# Altium footprint library MV-LED.PcbLib: 10 footprints
Each footprint in its own frame and in the unit in brackets; x right, y up, seen from the top. Pads: shape width x height; smd on the part's side, far side on the other; paste and mask are expansions set on the pad; w line width, h text height; cw(c..) or ccw(c..) is an arc to the next point about the centre after c.
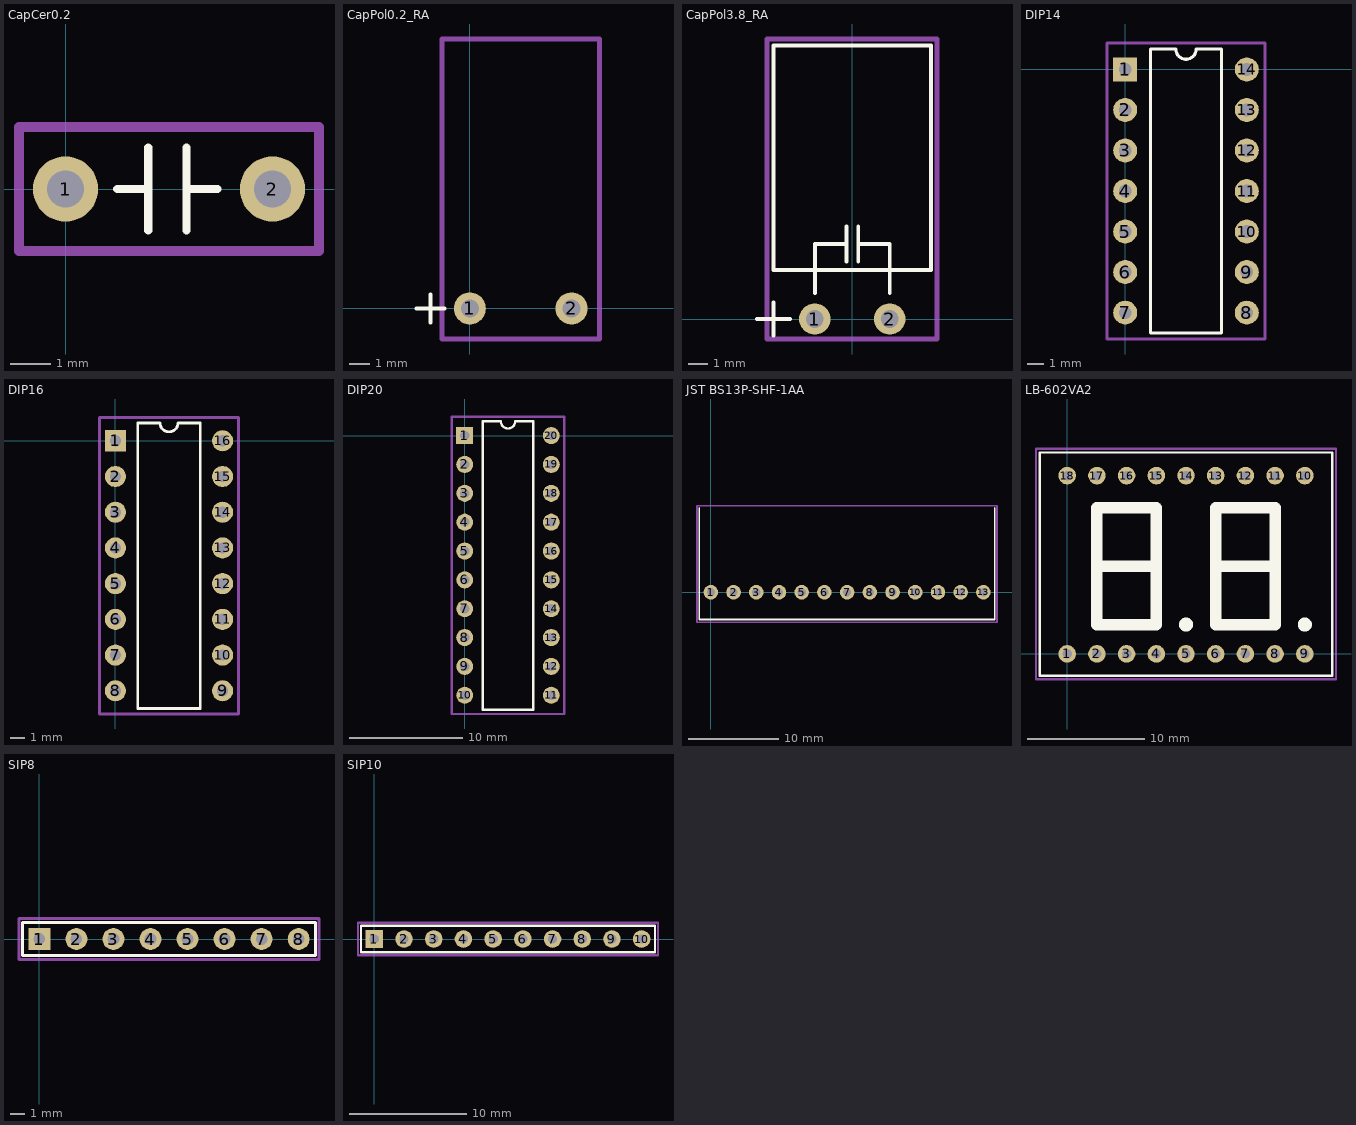
[diagram p0: the footprints below, top view; thin cyan lines are the x and y axes]

## CapCer0.2 [mm]
pads (2):
  round 1.6 hole 0.9: 1(0,0) 2(5.08,0)
Top Overlay:
  lines w0.2: 1.27,0 2.032,0 ; 2.032,-1.016 2.032,1.016 ; 2.968,-1.016 2.968,1.016 ; 2.968,0 3.73,0
Mechanical 15:
  lines w0.254: -1.143,-1.524 -1.143,1.524 6.223,1.524 6.223,-1.524 -1.143,-1.524
3D body "c322c104m5u5ta.stp": height 7.81, standoff -5.79, extent -0.255,-1.585 5.335,1.6

## CapPol0.2_RA [mm]
pads (2):
  round 1.6 hole 0.9: 1(0,0) 2(5.08,0)
Top Overlay:
  lines w0.2: -2.667,0 -1.27,0 ; -1.968,-0.699 -1.968,0.699
Mechanical 15:
  lines w0.254: -1.397,-1.524 -1.397,13.462 6.477,13.462 6.477,-1.524 -1.397,-1.524
3D body: height 8.5, standoff 0.5, extent -1.46,1.524 6.54,13.524

## CapPol3.8_RA [mm]
pads (2):
  round 1.6 hole 0.9: 1(-1.9,0) 2(1.9,0)
Top Overlay:
  lines w0.2: -4.85,0 -3.15,0 ; -4,-0.85 -4,0.85 ; -1.895,1.31 -1.895,3.81 -0.295,3.81 ; -0.295,2.91 -0.295,4.71 ; 0.305,2.91 0.305,4.71 ; 0.305,3.81 1.905,3.81 1.905,1.31 ; -4,2.5 4,2.5 4,13.9 -4,13.9 -4,2.5
Mechanical 15:
  lines w0.254: -4.318,-1.016 4.318,-1.016 4.318,14.224 -4.318,14.224 -4.318,-1.016
3D body: height 8, standoff 0, extent -4.071,1.604 3.929,13.604

## DIP14 [mm]
pads (14):
  rect 1.5x1.5 hole 0.8: 1(0,0)
  round 1.5 hole 0.8: 2(0,-2.54) 3(0,-5.08) 4(0,-7.62) 5(0,-10.16) 6(0,-12.7) 7(0,-15.24) 8(7.62,-15.24) 9(7.62,-12.7) 10(7.62,-10.16) 11(7.62,-7.62) 12(7.62,-5.08) 13(7.62,-2.54) 14(7.62,0)
Top Overlay:
  lines w0.2: 1.585,-16.51 6.035,-16.51 6.035,1.27 4.445,1.27 cw(c3.81,1.27) 3.175,1.27 1.585,1.27 1.585,-16.51
Mechanical 15:
  lines w0.2: -1.143,-16.891 8.763,-16.891 8.763,1.651 -1.143,1.651 -1.143,-16.891
3D body "CircuitWorks-DIP14.step": height 4.19, standoff -2.67, extent -0.127,-17.145 7.747,1.905

## DIP16 [mm]
pads (16):
  rect 1.5x1.5 hole 0.8: 1(0,0)
  round 1.5 hole 0.8: 2(0,-2.54) 3(0,-5.08) 4(0,-7.62) 5(0,-10.16) 6(0,-12.7) 7(0,-15.24) 8(0,-17.78) 9(7.62,-17.78) 10(7.62,-15.24) 11(7.62,-12.7) 12(7.62,-10.16) 13(7.62,-7.62) 14(7.62,-5.08) 15(7.62,-2.54) 16(7.62,0)
Top Overlay:
  lines w0.2: 1.585,-19.05 6.035,-19.05 6.035,1.27 4.445,1.27 cw(c3.81,1.27) 3.175,1.27 1.585,1.27 1.585,-19.05
Mechanical 15:
  lines w0.2: -1.143,-19.431 -1.143,1.651 8.763,1.651 8.763,-19.431 -1.143,-19.431
3D body "CircuitWorks-DIP16.step": height 4.19, standoff -2.57, extent -0.127,-19.583 7.747,2.007

## DIP20 [mm]
pads (20):
  rect 1.5x1.5 hole 0.8: 1(0,0)
  round 1.5 hole 0.8: 2(0,-2.54) 3(0,-5.08) 4(0,-7.62) 5(0,-10.16) 6(0,-12.7) 7(0,-15.24) 8(0,-17.78) 9(0,-20.32) 10(0,-22.86) 11(7.62,-22.86) 12(7.62,-20.32) 13(7.62,-17.78) 14(7.62,-15.24) 15(7.62,-12.7) 16(7.62,-10.16) 17(7.62,-7.62) 18(7.62,-5.08) 19(7.62,-2.54) 20(7.62,0)
Top Overlay:
  lines w0.2: 1.585,-24.13 6.035,-24.13 6.035,1.27 4.445,1.27 cw(c3.81,1.27) 3.175,1.27 1.585,1.27 1.585,-24.13
Mechanical 15:
  lines w0.2: -1.143,-24.511 8.763,-24.511 8.763,1.651 -1.143,1.651 -1.143,-24.511
3D body "User Library-DIP-20P-M01.step": height 4.36, standoff -3, extent -0.125,-23.711 7.745,0.889

## JST BS13P-SHF-1AA [mm] "JST HVQ Series, 2.5mm Pitch 13 Way 1 Row Right Angle PCB Header, Through Hole, Solder Termination"
pads (13):
  round 1.6 hole 0.9: 1(0,0) 2(2.5,0) 3(5,0) 4(7.5,0) 5(10,0) 6(12.5,0) 7(15,0) 8(17.5,0) 9(20,0) 10(22.5,0) 11(25,0) 12(27.5,0) 13(30,0)
Top Overlay:
  lines w0.2: -1.27,9.271 -1.27,-3 31.242,-3 31.242,9.271
Mechanical 15:
  lines w0.2: -1.524,-3.302 31.496,-3.302 31.496,9.525 -1.524,9.525 -1.524,-3.302
3D body "BS13P-SHF-1AA.STEP": height 5.6, standoff -3, extent -1.25,-3 31.25,8.5

## LB-602VA2 [mm] "Double Digits LED Numeric Display"
pads (18):
  round 1.5 hole 0.8: 1(0,0) 2(2.54,0) 3(5.08,0) 4(7.62,0) 5(10.16,0) 6(12.7,0) 7(15.24,0) 8(17.78,0) 9(20.32,0) 10(20.32,15.24) 11(17.78,15.24) 12(15.24,15.24) 13(12.7,15.24) 14(10.16,15.24) 15(7.62,15.24) 16(5.08,15.24) 17(2.54,15.24) 18(0,15.24)
Top Overlay:
  circle w1: c20.32,2.5 r0.1
  circle w1: c10.16,2.5 r0.1
  lines w0.2: -2.34,-1.88 22.66,-1.88 22.66,17.22 -2.34,17.22 -2.34,-1.88
  lines w1: 2.54,7.5 2.54,12.5 7.62,12.5 7.62,7.5 ; 2.54,7.5 7.62,7.5 ; 2.54,7.5 2.54,2.5 7.62,2.5 7.62,7.5 ; 12.7,7.5 17.78,7.5 ; 12.7,7.5 12.7,12.5 17.78,12.5 17.78,7.5 ; 12.7,7.5 12.7,2.5 17.78,2.5 17.78,7.5
Mechanical 15:
  lines w0.2: -2.667,-2.159 22.987,-2.159 22.987,17.526 -2.667,17.526 -2.667,-2.159
3D body "27791.stp": height 8, standoff -3.5, extent -2.34,-1.849 22.66,17.151

## SIP8 [mm]
pads (8):
  rect 1.5x1.5 hole 0.8: 1(0,0)
  round 1.5 hole 0.8: 2(2.54,0) 3(5.08,0) 4(7.62,0) 5(10.16,0) 6(12.7,0) 7(15.24,0) 8(17.78,0)
Top Overlay:
  lines w0.2: -1.143,-1.143 18.923,-1.143 18.923,1.143 -1.143,1.143 -1.143,-1.143
Mechanical 15:
  lines w0.2: -1.397,-1.397 19.177,-1.397 19.177,1.397 -1.397,1.397 -1.397,-1.397
3D body "68058.stp": height 4.95, standoff -3.43, extent -1.27,-1.245 19,1.245

## SIP10 [mm]
pads (10):
  rect 1.5x1.5 hole 0.8: 1(0,0)
  round 1.5 hole 0.8: 2(2.54,0) 3(5.08,0) 4(7.62,0) 5(10.16,0) 6(12.7,0) 7(15.24,0) 8(17.78,0) 9(20.32,0) 10(22.86,0)
Top Overlay:
  lines w0.2: -1.143,-1.143 24.003,-1.143 24.003,1.143 -1.143,1.143 -1.143,-1.143
Mechanical 15:
  lines w0.2: -1.397,-1.397 24.257,-1.397 24.257,1.397 -1.397,1.397 -1.397,-1.397
3D body "68112.stp": height 4.95, standoff -3.43, extent -1.27,-1.245 24.08,1.245